# EAGLE library part BQ34Z100-G1 (library common)
Multi-Chemistry fuel gauge.
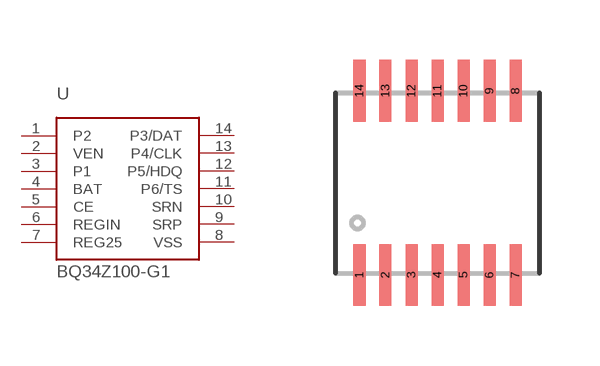
[diagram p3: symbol with the pads of R-PDSO-G14; footprint R-PDSO-G14]

Designator prefix U

## BQ34Z100-G1  [R-PDSO-G14]
1  P2
2  VEN
3  P1
4  BAT
5  CE
6  REGIN
7  REG25
8  VSS
9  SRP
10  SRN
11  P6/TS
12  P5/HDQ
13  P4/CLK
14  P3/DAT

## Footprint R-PDSO-G14 (pad centres in mm)
smd 0.3 x 1.55: 1 -1.95,-2.3; 2 -1.3,-2.3; 3 -0.65,-2.3; 4 0,-2.3; 5 0.65,-2.3; 6 1.3,-2.3; 7 1.95,-2.3; 8 1.95,2.3; 9 1.3,2.3; 10 0.65,2.3; 11 0,2.3; 12 -0.65,2.3; 13 -1.3,2.3; 14 -1.95,2.3